# Altium integrated library IMU 10DOF.IntLib: 1 symbol
Pins are listed as number, name and electrical type; pins without a type are passive.

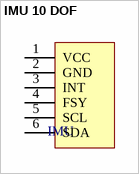
[diagram p0: symbol IMU 10 DOF]

## IMU 10 DOF
designator IMU  (value not drawn)
Module
footprint IMU 10 DOF
footprint IMU 10-DOF v1.1
pins: 1 VCC, 2 GND, 3 INT, 4 FSY, 5 SCL, 6 SDA